# EAGLE library part XLIO_HOST (library pcie)
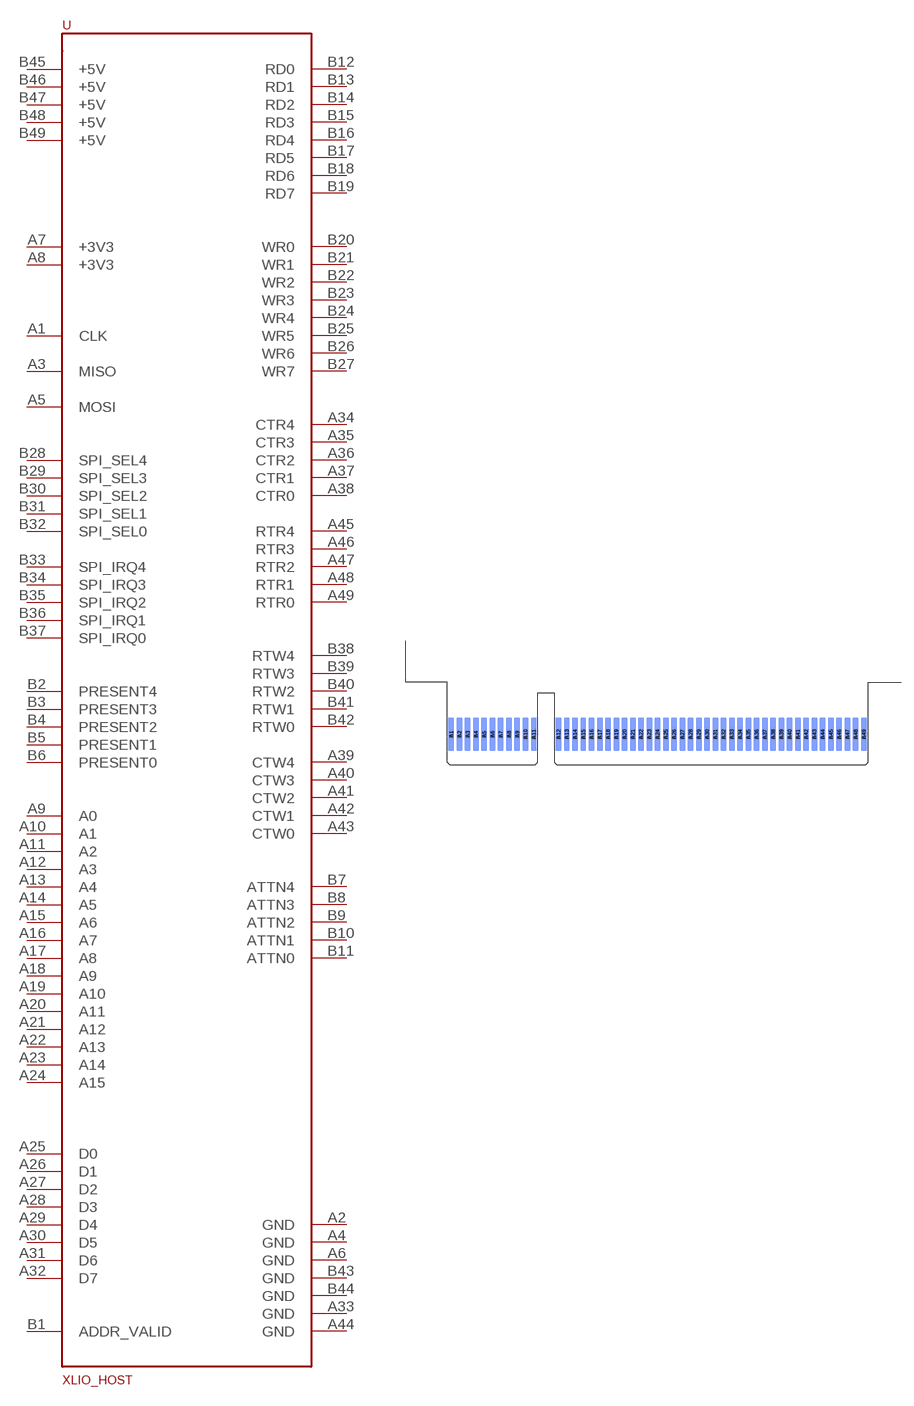
[diagram p4: symbol with the pads of XLIO-HOST; footprint XLIO-HOST]

Designator prefix -

## XLIO_HOST  [XLIO-HOST]
A1  CLK
A2  GND
A3  MISO
A4  GND
A5  MOSI
A6  GND
A7  +3V3
A8  +3V3
A9  A0
A10  A1
A11  A2
A12  A3
A13  A4
A14  A5
A15  A6
A16  A7
A17  A8
A18  A9
A19  A10
A20  A11
A21  A12
A22  A13
A23  A14
A24  A15
A25  D0
A26  D1
A27  D2
A28  D3
A29  D4
A30  D5
A31  D6
A32  D7
A33  GND
A34  CTR4
A35  CTR3
A36  CTR2
A37  CTR1
A38  CTR0
A39  CTW4
A40  CTW3
A41  CTW2
A42  CTW1
A43  CTW0
A44  GND
A45  RTR4
A46  RTR3
A47  RTR2
A48  RTR1
A49  RTR0
B1  ADDR_VALID
B2  PRESENT4
B3  PRESENT3
B4  PRESENT2
B5  PRESENT1
B6  PRESENT0
B7  ATTN4
B8  ATTN3
B9  ATTN2
B10  ATTN1
B11  ATTN0
B12  RD0
B13  RD1
B14  RD2
B15  RD3
B16  RD4
B17  RD5
B18  RD6
B19  RD7
B20  WR0
B21  WR1
B22  WR2
B23  WR3
B24  WR4
B25  WR5
B26  WR6
B27  WR7
B28  SPI_SEL4
B29  SPI_SEL3
B30  SPI_SEL2
B31  SPI_SEL1
B32  SPI_SEL0
B33  SPI_IRQ4
B34  SPI_IRQ3
B35  SPI_IRQ2
B36  SPI_IRQ1
B37  SPI_IRQ0
B38  RTW4
B39  RTW3
B40  RTW2
B41  RTW1
B42  RTW0
B43  GND
B44  GND
B45  +5V
B46  +5V
B47  +5V
B48  +5V
B49  +5V

## Footprint XLIO-HOST (pad centres in mm)
smd 0.7 x 4 bottom: A1 5.49,3.68; A2 6.49,3.68; A3 7.49,3.68; A4 8.49,3.68; A5 9.49,3.68; A6 10.49,3.68; A7 11.49,3.68; A8 12.49,3.68; A9 13.49,3.68; A10 14.49,3.68; A11 15.49,3.68; A12 18.49,3.68; A13 19.49,3.68; A14 20.49,3.68; A15 21.49,3.68; A16 22.49,3.68; A17 23.49,3.68; A18 24.49,3.68; A19 25.49,3.68; A20 26.49,3.68; A21 27.49,3.68; A22 28.49,3.68; A23 29.49,3.68; A24 30.49,3.68; A25 31.49,3.68; A26 32.49,3.68; A27 33.49,3.68; A28 34.49,3.68; A29 35.49,3.68; A30 36.49,3.68; A31 37.49,3.68; A32 38.49,3.68; A33 39.49,3.68; A34 40.49,3.68; A35 41.49,3.68; A36 42.49,3.68; A37 43.49,3.68; A38 44.49,3.68; A39 45.49,3.68; A40 46.49,3.68; A41 47.49,3.68; A42 48.49,3.68; A43 49.49,3.68; A44 50.49,3.68; A45 51.49,3.68; A46 52.49,3.68; A47 53.49,3.68; A48 54.49,3.68; A49 55.49,3.68
smd 0.7 x 4: B1 5.49,3.68; B2 6.49,3.68; B3 7.49,3.68; B4 8.49,3.68; B5 9.49,3.68; B6 10.49,3.68; B7 11.49,3.68; B8 12.49,3.68; B9 13.49,3.68; B10 14.49,3.68; B11 15.49,3.68; B12 18.49,3.68; B13 19.49,3.68; B14 20.49,3.68; B15 21.49,3.68; B16 22.49,3.68; B17 23.49,3.68; B18 24.49,3.68; B19 25.49,3.68; B20 26.49,3.68; B21 27.49,3.68; B22 28.49,3.68; B23 29.49,3.68; B24 30.49,3.68; B25 31.49,3.68; B26 32.49,3.68; B27 33.49,3.68; B28 34.49,3.68; B29 35.49,3.68; B30 36.49,3.68; B31 37.49,3.68; B32 38.49,3.68; B33 39.49,3.68; B34 40.49,3.68; B35 41.49,3.68; B36 42.49,3.68; B37 43.49,3.68; B38 44.49,3.68; B39 45.49,3.68; B40 46.49,3.68; B41 47.49,3.68; B42 48.49,3.68; B43 49.49,3.68; B44 50.49,3.68; B45 51.49,3.68; B46 52.49,3.68; B47 53.49,3.68; B48 54.49,3.68; B49 55.49,3.68